# Altium schematic symbol library Schlib1.SchLib: 2 symbols
Pins are listed as number, name and electrical type; pins without a type are passive.

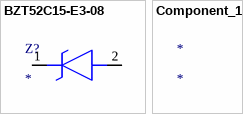
[diagram p0: symbols BZT52C15-E3-08 to Component_1]

## BZT52C15-E3-08
designator Z?
Zener Diode; Manufacturer_Name: Vishay; Manufacturer_Part_Number: BZT52C15-E3-08; Description: ZENER DIODE SOD123-E3; Datasheet Link: https://www.vishay.com/docs/85760/bzt52.pdf; Height: 1.35mm; Mouser Part Number: 78-BZT52C15-E3-08; Mouser Price/Stock: https://www.mouser.co.uk/ProductDetail/Vishay-Semiconductors/BZT52C15-E3-08?qs=KP8Io%2FXyE5T2xU7%252Bcte76g%3D%3D; Arrow Part Number: BZT52C15-E3-08; Arrow Price/Stock: https://www.arrow.com/en/products/bzt52c15-e3-08/vishay?utm_currency=USD&region=nac
footprint SOD3716X135N
pins: 1 K, 2 A

## Component_1
designator *